# Altium footprint library MIC5365-3P0YC5-TR.PcbLib: 3 footprints
Each footprint in its own frame and in the unit in brackets; x right, y up, seen from the top. Pads: shape width x height; smd on the part's side, far side on the other; paste and mask are expansions set on the pad; w line width, h text height; cw(c..) or ccw(c..) is an arc to the next point about the centre after c.
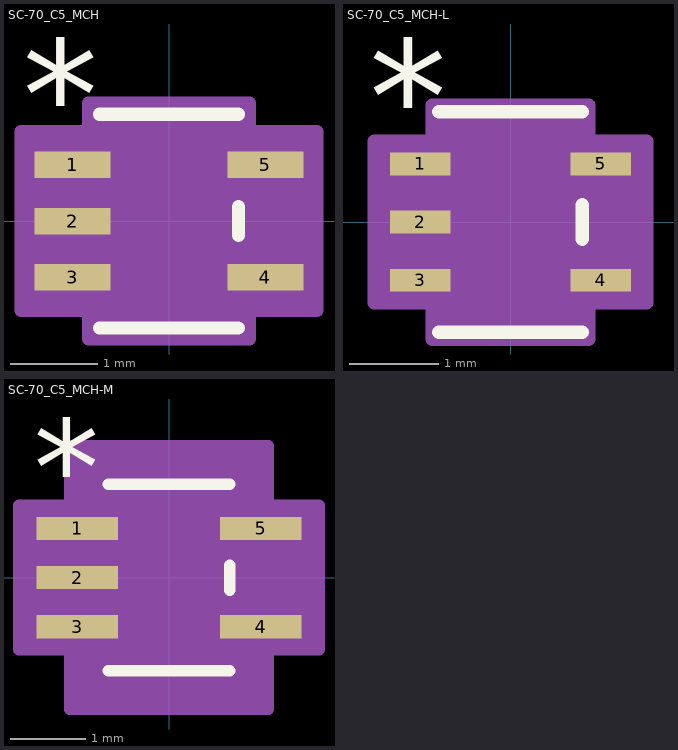
[diagram p0: the footprints below, top view; thin cyan lines are the x and y axes]

## SC-70_C5_MCH [mil]
pads (5):
  rect 34.5x12 smd paste+0 mask+0: 1(-43.75,25.59) 2(-43.75,0) 3(-43.75,-25.59) 4(43.75,-25.59) 5(43.75,25.59)
Top Overlay:
  lines w6: -31.5,-48.5 31.5,-48.5 ; -31.5,48.5 31.5,48.5 ; 31.5,-6.49 31.5,6.49
  text "*" at -66.25,32.59 h50
Mechanical 13:
  lines w0: -12,43.5 ccw(c0,43.5) 12,43.5
  lines w1: -47,-31.59 -47,-19.59 -26.5,-19.59 -26.5,-31.59 -47,-31.59 ; -47,-6 -47,6 -26.5,6 -26.5,-6 -47,-6 ; -47,19.59 -47,31.59 -26.5,31.59 -26.5,19.59 -47,19.59 ; -26.5,-43.5 26.5,-43.5 26.5,43.5 -26.5,43.5 -26.5,-43.5 ; 26.5,-31.59 26.5,-19.59 47,-19.59 47,-31.59 26.5,-31.59 ; 26.5,19.59 26.5,31.59 47,31.59 47,19.59 26.5,19.59
  text "*" at -29,-10.41 h50
Mechanical 15:
  region: 36.5,-53.5 -36.5,-53.5 -36.5,-40.59 -67,-40.59 -67,40.59 -36.5,40.59 -36.5,53.5 36.5,53.5 36.5,40.59 67,40.59 67,-40.59 36.5,-40.59
  lines w6: -67,-40.59 -36.5,-40.59 -36.5,-53.5 36.5,-53.5 36.5,-40.59 67,-40.59 67,40.59 36.5,40.59 36.5,53.5 -36.5,53.5 -36.5,40.59 -67,40.59 -67,-40.59
3D body "SC-70_C5_MCH.step": height 43.11, standoff 0, extent -47.01,-43.5 47.01,43.5

## SC-70_C5_MCH-L [mil]
pads (5):
  rect 26.5x10 smd paste+0 mask+0: 1(-39.75,25.59) 2(-39.75,0) 3(-39.75,-25.59) 4(39.75,-25.59) 5(39.75,25.59)
Top Overlay:
  lines w6: -31.5,-48.5 31.5,-48.5 ; -31.5,48.5 31.5,48.5 ; 31.5,-7.49 31.5,7.49
  text "*" at -62.25,30.59 h50
Mechanical 13:
  lines w0: -12,43.5 ccw(c0,43.5) 12,43.5
  lines w1: -47,-31.59 -47,-19.59 -26.5,-19.59 -26.5,-31.59 -47,-31.59 ; -47,-6 -47,6 -26.5,6 -26.5,-6 -47,-6 ; -47,19.59 -47,31.59 -26.5,31.59 -26.5,19.59 -47,19.59 ; -26.5,-43.5 26.5,-43.5 26.5,43.5 -26.5,43.5 -26.5,-43.5 ; 26.5,-31.59 26.5,-19.59 47,-19.59 47,-31.59 26.5,-31.59 ; 26.5,19.59 26.5,31.59 47,31.59 47,19.59 26.5,19.59
  text "*" at -29,-12.41 h50
Mechanical 15:
  region: 34.5,-51.5 -34.5,-51.5 -34.5,-35.59 -60,-35.59 -60,35.59 -34.5,35.59 -34.5,51.5 34.5,51.5 34.5,35.59 60,35.59 60,-35.59 34.5,-35.59
  lines w6: -60,-35.59 -34.5,-35.59 -34.5,-51.5 34.5,-51.5 34.5,-35.59 60,-35.59 60,35.59 34.5,35.59 34.5,51.5 -34.5,51.5 -34.5,35.59 -60,35.59 -60,-35.59
3D body "SC-70_C5_MCH.step": height 43.11, standoff 0, extent -47.01,-43.5 47.01,43.5

## SC-70_C5_MCH-M [mil]
pads (5):
  rect 42.5x12 smd paste+0 mask+0: 1(-47.75,25.59) 2(-47.75,0) 3(-47.75,-25.59) 4(47.75,-25.59) 5(47.75,25.59)
Top Overlay:
  lines w6: -31.5,-48.5 31.5,-48.5 ; -31.5,48.5 31.5,48.5 ; 31.5,-6.49 31.5,6.49
  text "*" at -70.25,32.59 h50
Mechanical 13:
  lines w0: -12,43.5 ccw(c0,43.5) 12,43.5
  lines w1: -47,-31.59 -47,-19.59 -26.5,-19.59 -26.5,-31.59 -47,-31.59 ; -47,-6 -47,6 -26.5,6 -26.5,-6 -47,-6 ; -47,19.59 -47,31.59 -26.5,31.59 -26.5,19.59 -47,19.59 ; -26.5,-43.5 26.5,-43.5 26.5,43.5 -26.5,43.5 -26.5,-43.5 ; 26.5,-31.59 26.5,-19.59 47,-19.59 47,-31.59 26.5,-31.59 ; 26.5,19.59 26.5,31.59 47,31.59 47,19.59 26.5,19.59
  text "*" at -29,-10.41 h50
Mechanical 15:
  region: 51.5,-68.5 -51.5,-68.5 -51.5,-37.59 -78,-37.59 -78,37.59 -51.5,37.59 -51.5,68.5 51.5,68.5 51.5,37.59 78,37.59 78,-37.59 51.5,-37.59
  lines w6: -78,-37.59 -51.5,-37.59 -51.5,-68.5 51.5,-68.5 51.5,-37.59 78,-37.59 78,37.59 51.5,37.59 51.5,68.5 -51.5,68.5 -51.5,37.59 -78,37.59 -78,-37.59
3D body "SC-70_C5_MCH.step": height 43.11, standoff 0, extent -47.01,-43.5 47.01,43.5